# EAGLE library part 1554КП7 (library std-logic-1554series)
АЕЯР.431200.182-11 ТУ 1554КП7 - Селектор-мультиплексор 8-1 со стробированием. Изготовитель: ОАО "ИНТЕГРАЛ", г. Минск, р. Беларусь. Технические условия (ТБМ): АЕЯР.431200.182-11 ТУ Технические условия (не ТБМ): АЕЯР.431200.093-06 ТУ
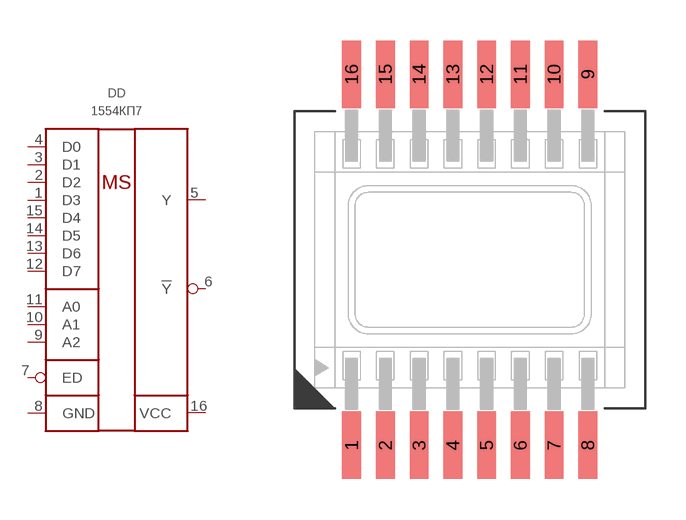
[diagram p45: symbol with the pads of 402.16-32; footprint 402.16-32]

Designator prefix DD

## 1554КП7ТБМ  [402.16-32]
1  D3  in
2  D2  in
3  D1  in
4  D0  in
5  Y  out
6  !Y  out
7  ED  in
8  GND  pwr
9  A2  in
10  A1  in
11  A0  in
12  D7  in
13  D6  in
14  D5  in
15  D4  in
16  VCC  pwr

## Footprint 402.16-32 (pad centres in mm)
smd 0.7 x 2.5: 1 -4.375,-6.875; 2 -3.125,-6.875; 3 -1.875,-6.875; 4 -0.625,-6.875; 5 0.625,-6.875; 6 1.875,-6.875; 7 3.125,-6.875; 8 4.375,-6.875; 9 4.375,6.875; 10 3.125,6.875; 11 1.875,6.875; 12 0.625,6.875; 13 -0.625,6.875; 14 -1.875,6.875; 15 -3.125,6.875; 16 -4.375,6.875